# Altium integrated library RF Micro RF and IF Mixer.IntLib: 10 symbols
Pins are listed as number, name and electrical type; pins without a type are passive.

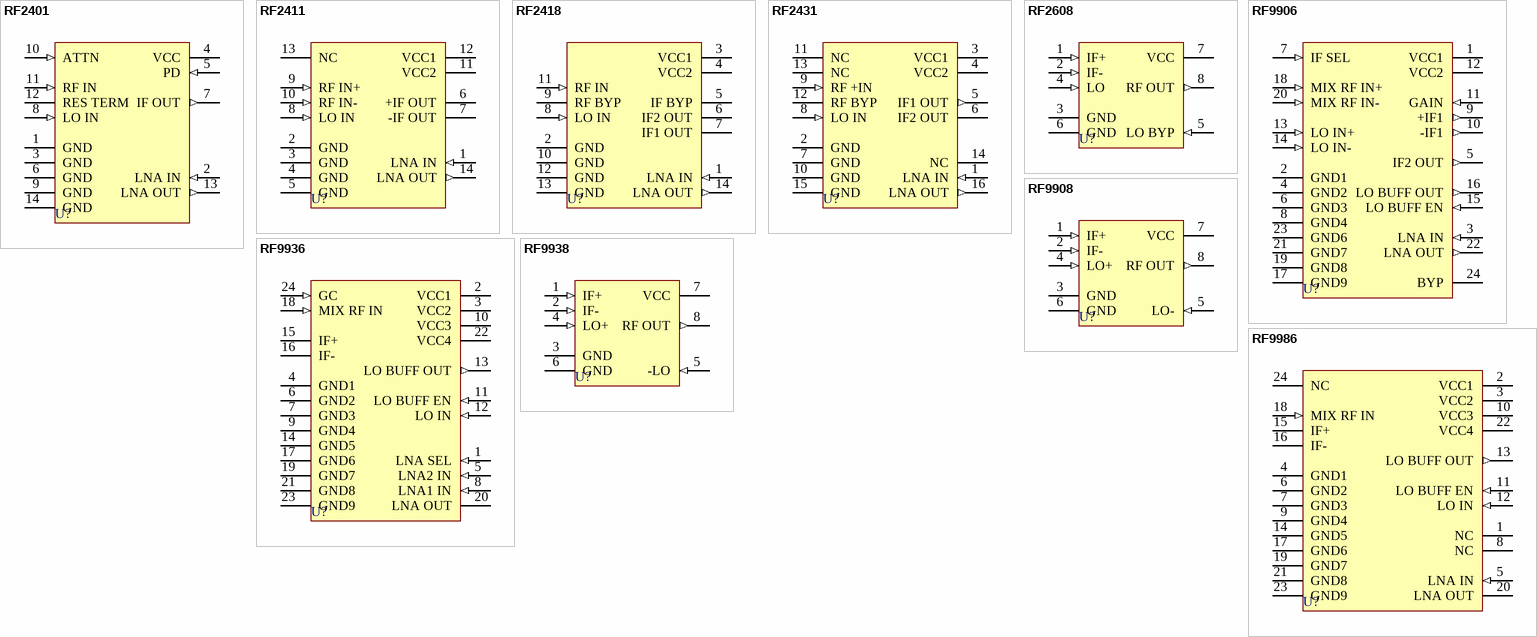
[diagram p0: symbols RF2401 to RF9986]

## RF2401
designator U?
Low-Noise Amplifier/Mixer; Published: 8-Jun-2000; LatestRevisionDate: 13-Apr-2006; LatestRevisionNote: IPC-7351 Footprint Added.; DatasheetVersion: Apr-1997; PackageVersion: 1997; PackageReference: SOP-14; Publisher: Altium Limited; PackageDescription: 14-Pin Small Outline Integrated Circuit 1.27 mm Pitch; Code_IPC: SOIC127P600-14; ComponentLink1Description: Manufacturer Link; ComponentLink1URL: http://www.rfmd.com/
footprint SOP-14_N (SOIC, 14-Leads, Body 8.7x3.9mm, Pitch 1.27mm, IPC Medium Density)
footprint SOP-14_L (SOIC, 14-Leads, Body 8.7x3.9mm, Pitch 1.27mm, IPC High Density)
footprint SOP-14_M (SOIC, 14-Leads, Body 8.7x3.9mm, Pitch 1.27mm, IPC Low Density)
pins: 1 GND (power), 2 LNA IN (in), 3 GND (power), 4 VCC (power), 5 PD (in), 6 GND (power), 7 IF OUT (out), 8 LO IN (in), 9 GND (power), 10 ATTN (in), 11 RF IN (in), 12 RES TERM, 13 LNA OUT (out), 14 GND (power)

## RF2411
designator U?
Low-Noise Amplifier/Mixer; Note: Pin(s) 13 "No Connection".; Published: 8-Jun-2000; LatestRevisionDate: 13-Apr-2006; LatestRevisionNote: IPC-7351 Footprint Added.; DatasheetVersion: Rev. A5; PackageVersion: 1997; PackageReference: SOP-14; Publisher: Altium Limited; PackageDescription: 14-Pin Small Outline Integrated Circuit 1.27 mm Pitch; Code_IPC: SOIC127P600-14; ComponentLink1Description: Manufacturer Link; ComponentLink1URL: http://www.rfmd.com/; ComponentLink2Description: Datasheet; ComponentLink2URL: http://www.rfmd.com/DataBooks/db97/2411.pdf
footprint SOP-14_N (SOIC, 14-Leads, Body 8.7x3.9mm, Pitch 1.27mm, IPC Medium Density)
footprint SOP-14_L (SOIC, 14-Leads, Body 8.7x3.9mm, Pitch 1.27mm, IPC High Density)
footprint SOP-14_M (SOIC, 14-Leads, Body 8.7x3.9mm, Pitch 1.27mm, IPC Low Density)
pins: 1 LNA IN (in), 2 GND (power), 3 GND (power), 4 GND (power), 5 GND (power), 6 +IF OUT (oc), 7 -IF OUT (oc), 8 LO IN (in), 9 RF IN+ (in), 10 RF IN- (in), 11 VCC2 (power), 12 VCC1 (power), 13 NC, 14 LNA OUT (out)

## RF2418
designator U?
Low Current LNA/Mixer; Published: 8-Jun-2000; LatestRevisionDate: 13-Apr-2006; LatestRevisionNote: IPC-7351 Footprint Added.; DatasheetVersion: Rev. A6; PackageVersion: 1997; PackageReference: SOP-14; Publisher: Altium Limited; PackageDescription: 14-Pin Small Outline Integrated Circuit 1.27 mm Pitch; Code_IPC: SOIC127P600-14; ComponentLink1Description: Manufacturer Link; ComponentLink1URL: http://www.rfmd.com/; ComponentLink2Description: Datasheet; ComponentLink2URL: http://www.rfmd.com/DataBooks/db97/2418.pdf
footprint SOP-14_N (SOIC, 14-Leads, Body 8.7x3.9mm, Pitch 1.27mm, IPC Medium Density)
footprint SOP-14_L (SOIC, 14-Leads, Body 8.7x3.9mm, Pitch 1.27mm, IPC High Density)
footprint SOP-14_M (SOIC, 14-Leads, Body 8.7x3.9mm, Pitch 1.27mm, IPC Low Density)
pins: 1 LNA IN (in), 2 GND (power), 3 VCC1 (power), 4 VCC2 (power), 5 IF BYP (power), 6 IF2 OUT (oe), 7 IF1 OUT (oc), 8 LO IN (in), 9 RF BYP, 10 GND (power), 11 RF IN (in), 12 GND (power), 13 GND (power), 14 LNA OUT (out)

## RF2431
designator U?
High Frequency LNA/Mixer; Note: Pin(s) 11,13,14 "No Connection".; Published: 8-Jun-2000; LatestRevisionDate: 13-Apr-2006; LatestRevisionNote: IPC-7351 Footprint Added.; DatasheetVersion: Apr-1997; PackageVersion: 1997; PackageReference: SOP-16; Publisher: Altium Limited; PackageDescription: 16-Pin Small Outline Integrated Circuit 1.27 mm Pitch; Code_IPC: SOIC127P600-16; ComponentLink1Description: Manufacturer Link; ComponentLink1URL: http://www.rfmd.com/
footprint SOP-16_N (SOIC, 16-Leads, Body 9.9x3.9mm, Pitch 1.27mm, IPC Medium Density)
footprint SOP-16_L (SOIC, 16-Leads, Body 9.9x3.9mm, Pitch 1.27mm, IPC High Density)
footprint SOP-16_M (SOIC, 16-Leads, Body 9.9x3.9mm, Pitch 1.27mm, IPC Low Density)
pins: 1 LNA IN (in), 2 GND (power), 3 VCC1 (power), 4 VCC2 (power), 5 IF1 OUT (out), 6 IF2 OUT (oc), 7 GND (power), 8 LO IN (in), 9 RF +IN (in), 10 GND (power), 11 NC, 12 RF BYP, 13 NC, 14 NC, 15 GND (power), 16 LNA OUT (out)

## RF2608
designator U?
CDMA/FM Upconverter/BPSK Modulator; ComponentAvailability: Not for New Design; Published: 8-Jun-2000; LatestRevisionDate: 13-Apr-2006; LatestRevisionNote: IPC-7351 Footprint Added.; DatasheetVersion: Rev. B4; PackageVersion: 1997; PackageReference: SOP-8; Publisher: Altium Limited; PackageDescription: 8-Pin Small Outline Integrated Circuit 1.27 mm Pitch; ComponentLink1Description: Manufacturer Link; ComponentLink1URL: http://www.rfmd.com/; ComponentLink2Description: Datasheet; ComponentLink2URL: http://www.rfmd.com/DataBooks/db97/2608.pdf
footprint SOP-8_N (SOIC, 8-Leads, Body 4.9x3.9mm, Pitch 1.27mm, IPC Medium Density)
footprint SOP-8_L (SOIC, 8-Leads, Body 4.9x3.9mm, Pitch 1.27mm, IPC High Density)
footprint SOP-8_M (SOIC, 8-Leads, Body 4.9x3.9mm, Pitch 1.27mm, IPC Low Density)
pins: 1 IF+ (in), 2 IF- (in), 3 GND (power), 4 LO (in), 5 LO BYP (in), 6 GND (power), 7 VCC (power), 8 RF OUT (out)

## RF9906
designator U?
CDMA/FM Low-Noise Amplifier/Mixer; Published: 8-Jun-2000; LatestRevisionDate: 17-Jul-2002; LatestRevisionNote: Re-released for DXP Platform.; DatasheetVersion: Apr-1997; PackageVersion: 1997; PackageReference: SSOP-24; Publisher: Altium Limited; PackageDescription: SSOP; 24 Leads; Body Width 3.9 mm; Pitch 0.64 mm; ComponentLink1Description: Manufacturer Link; ComponentLink1URL: http://www.rfmd.com/
footprint SSOP-24 (SSOP; 24 Leads; Body Width 3.9 mm; Pitch 0.64 mm)
pins: 1 VCC1 (power), 2 GND1 (power), 3 LNA IN (in), 4 GND2 (power), 5 IF2 OUT (out), 6 GND3 (power), 7 IF SEL (in), 8 GND4 (power), 9 +IF1 (out), 10 -IF1 (out), 11 GAIN (in), 12 VCC2 (power), 13 LO IN+ (in), 14 LO IN- (in), 15 LO BUFF EN (in), 16 LO BUFF OUT (out), 17 GND9 (power), 18 MIX RF IN+ (in), 19 GND8 (power), 20 MIX RF IN- (in), 21 GND7 (power), 22 LNA OUT (out), 23 GND6 (power), 24 BYP

## RF9908
designator U?
CDMA/FM Upconverter/BPSK Modulator; ComponentAvailability: Not for New Design; Published: 8-Jun-2000; LatestRevisionDate: 13-Apr-2006; LatestRevisionNote: IPC-7351 Footprint Added.; DatasheetVersion: Rev. A4; PackageVersion: 1997; PackageReference: SOP-8; Publisher: Altium Limited; PackageDescription: 8-Pin Small Outline Integrated Circuit 1.27 mm Pitch; ComponentLink1Description: Manufacturer Link; ComponentLink1URL: http://www.rfmd.com/; ComponentLink2Description: Datasheet; ComponentLink2URL: http://www.rfmd.com/DataBooks/db97/9908.pdf
footprint SOP-8_N (SOIC, 8-Leads, Body 4.9x3.9mm, Pitch 1.27mm, IPC Medium Density)
footprint SOP-8_L (SOIC, 8-Leads, Body 4.9x3.9mm, Pitch 1.27mm, IPC High Density)
footprint SOP-8_M (SOIC, 8-Leads, Body 4.9x3.9mm, Pitch 1.27mm, IPC Low Density)
pins: 1 IF+ (in), 2 IF- (in), 3 GND (power), 4 LO+ (in), 5 LO- (in), 6 GND (power), 7 VCC (power), 8 RF OUT (out)

## RF9936
designator U?
PCS Low-Noise Amplifier/Mixer; Published: 8-Jun-2000; LatestRevisionDate: 17-Jul-2002; LatestRevisionNote: Re-released for DXP Platform.; DatasheetVersion: Apr-1997; PackageVersion: 1997; PackageReference: SSOP-24; Publisher: Altium Limited; PackageDescription: SSOP; 24 Leads; Body Width 3.9 mm; Pitch 0.64 mm; ComponentLink1Description: Manufacturer Link; ComponentLink1URL: http://www.rfmd.com/
footprint SSOP-24 (SSOP; 24 Leads; Body Width 3.9 mm; Pitch 0.64 mm)
pins: 1 LNA SEL (in), 2 VCC1 (power), 3 VCC2 (power), 4 GND1 (power), 5 LNA2 IN (in), 6 GND2 (power), 7 GND3 (power), 8 LNA1 IN (in), 9 GND4 (power), 10 VCC3 (power), 11 LO BUFF EN (in), 12 LO IN (in), 13 LO BUFF OUT (out), 14 GND5 (power), 15 IF+ (oc), 16 IF- (oc), 17 GND6 (power), 18 MIX RF IN (in), 19 GND7 (power), 20 LNA OUT (oc), 21 GND8 (power), 22 VCC4 (power), 23 GND9 (power), 24 GC (in)

## RF9938
designator U?
PCS Upconverter/BPSK Modulator; Published: 8-Jun-2000; LatestRevisionDate: 13-Apr-2006; LatestRevisionNote: IPC-7351 Footprint Added.; DatasheetVersion: Rev. A5; PackageVersion: 1997; PackageReference: SOP-8; Publisher: Altium Limited; PackageDescription: 8-Pin Small Outline Integrated Circuit 1.27 mm Pitch; ComponentLink1Description: Manufacturer Link; ComponentLink1URL: http://www.rfmd.com/; ComponentLink2Description: Datasheet; ComponentLink2URL: http://www.rfmd.com/DataBooks/db97/9938.pdf
footprint SOP-8_N (SOIC, 8-Leads, Body 4.9x3.9mm, Pitch 1.27mm, IPC Medium Density)
footprint SOP-8_L (SOIC, 8-Leads, Body 4.9x3.9mm, Pitch 1.27mm, IPC High Density)
footprint SOP-8_M (SOIC, 8-Leads, Body 4.9x3.9mm, Pitch 1.27mm, IPC Low Density)
pins: 1 IF+ (in), 2 IF- (in), 3 GND (power), 4 LO+ (in), 5 -LO (in), 6 GND (power), 7 VCC (power), 8 RF OUT (out)

## RF9986
designator U?
PCS Low-Noise Amplifier/Mixer; Note: Pin(s) 1,8,24 "No Connection".; Published: 8-Jun-2000; LatestRevisionDate: 17-Jul-2002; LatestRevisionNote: Re-released for DXP Platform.; DatasheetVersion: Rev. B1; PackageVersion: 1997; PackageReference: SSOP-24; Publisher: Altium Limited; PackageDescription: SSOP; 24 Leads; Body Width 3.9 mm; Pitch 0.64 mm; ComponentLink1Description: Manufacturer Link; ComponentLink1URL: http://www.rfmd.com/; ComponentLink2Description: Datasheet; ComponentLink2URL: http://www.rfmd.com/DataBooks/db97/9986.pdf
footprint SSOP-24 (SSOP; 24 Leads; Body Width 3.9 mm; Pitch 0.64 mm)
pins: 1 NC, 2 VCC1 (power), 3 VCC2 (power), 4 GND1 (power), 5 LNA IN (in), 6 GND2 (power), 7 GND3 (power), 8 NC, 9 GND4 (power), 10 VCC3 (power), 11 LO BUFF EN (in), 12 LO IN (in), 13 LO BUFF OUT (out), 14 GND5 (power), 15 IF+ (oc), 16 IF- (oc), 17 GND6 (power), 18 MIX RF IN (in), 19 GND7 (power), 20 LNA OUT (oc), 21 GND8 (power), 22 VCC4 (power), 23 GND9 (power), 24 NC